# Altium schematic symbol library Seeed-OPL-Transistor.SCHLIB: 33 symbols
Pins are listed as number, name and electrical type; pins without a type are passive.

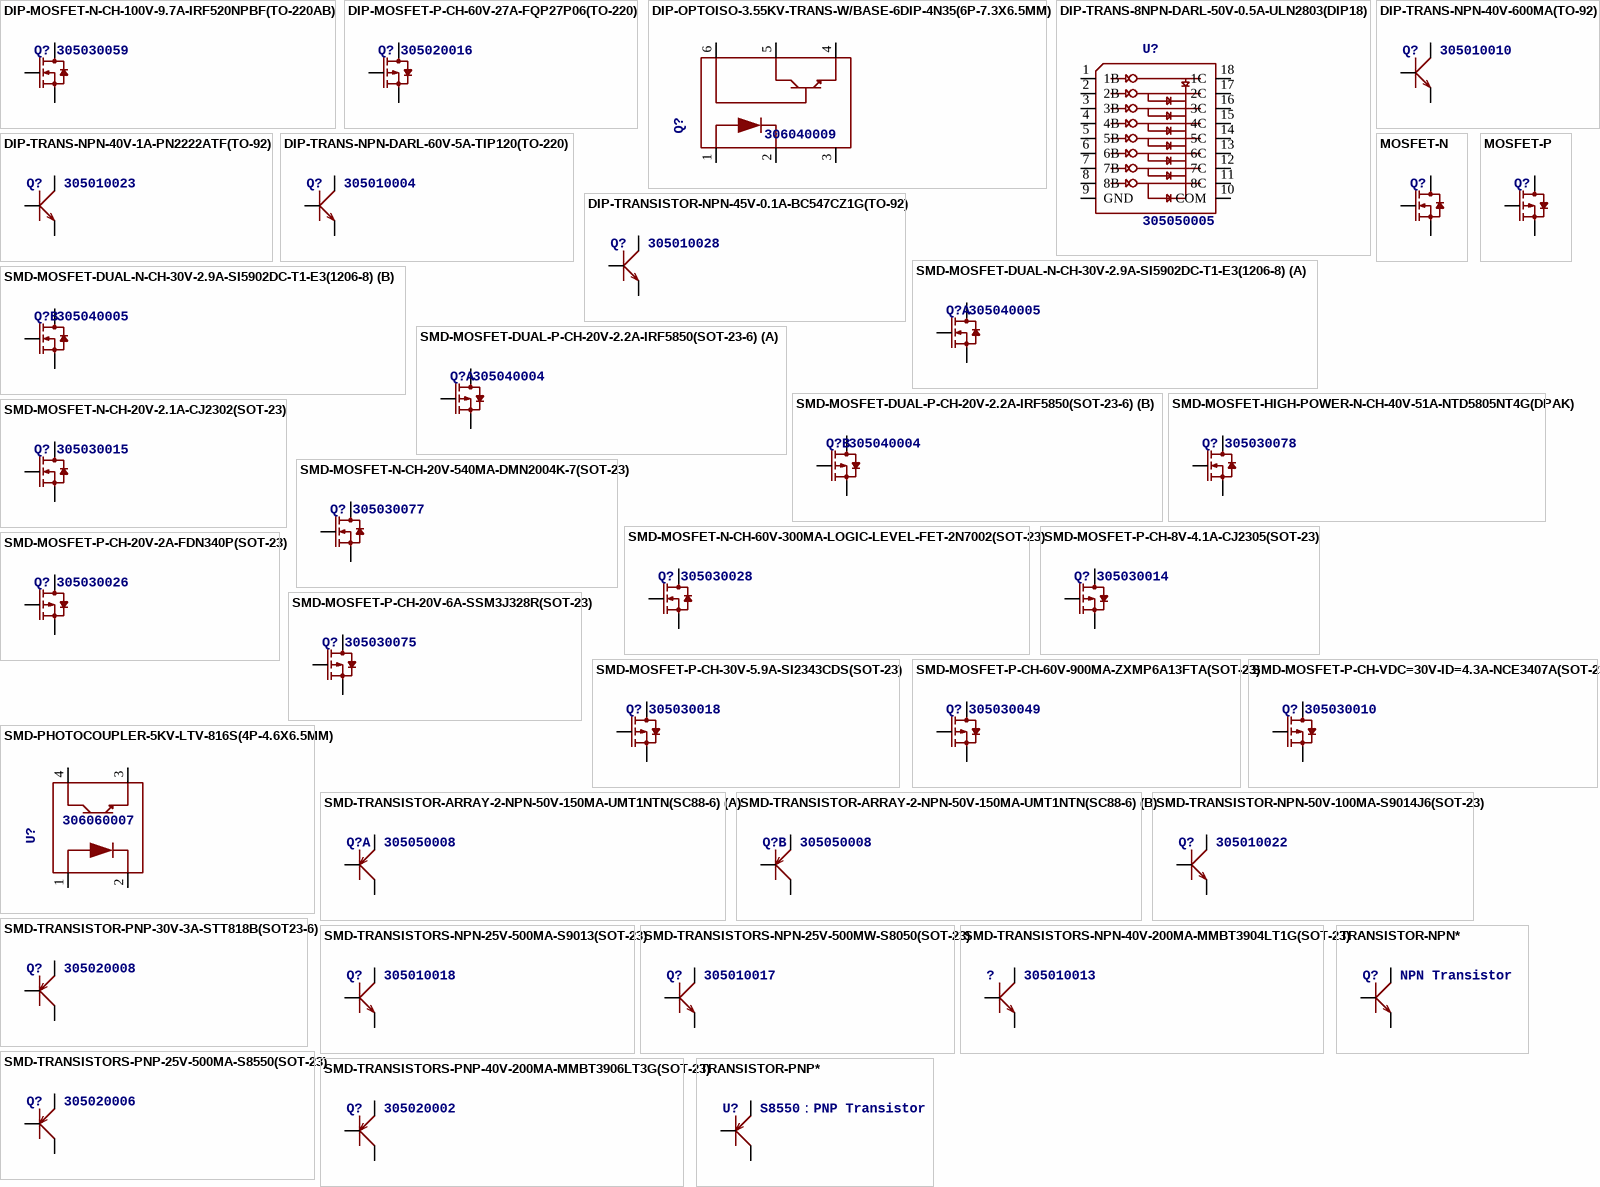
[diagram p0: symbols DIP-MOSFET-N-CH-100V-9.7A-IRF520NPBF(TO-220AB) to TRANSISTOR-PNP*]

## DIP-MOSFET-N-CH-100V-9.7A-IRF520NPBF(TO-220AB)
designator Q?, comment 305030059
MPN: IRF520NPBF
footprint TO-220
pins: 1 G, 2 HEAT S, 3 D

## DIP-MOSFET-P-CH-60V-27A-FQP27P06(TO-220)
designator Q?, comment 305020016
MPN: FQP27P06
footprint TO-220
pins: 1 G, 2 HEAT D, 3 S

## DIP-OPTOISO-3.55KV-TRANS-W/BASE-6DIP-4N35(6P-7.3X6.5MM)
designator Q?, comment 306040009
MPN: 4N35
footprint DIP6-2.54-7.3X6.5MM
pins: 1 ANODE, 2 CATHODE, 3 NC, 4 EMITER, 5 COLLECTOR, 6 BASE

## DIP-TRANS-8NPN-DARL-50V-0.5A-ULN2803(DIP18)
designator U?, comment 305050005
MPN: ULN2803APGCN
footprint DIP18-2.54-22.8X7.62MM
pins: 1 1B, 2 2B, 3 3B, 4 4B, 5 5B, 6 6B, 7 7B, 8 8B, 9 GND, 10 COM, 11 8C, 12 7C, 13 6C, 14 5C, 15 4C, 16 3C, 17 2C, 18 1C

## DIP-TRANS-NPN-40V-1A-PN2222ATF(TO-92)
designator Q?, comment 305010023
MPN: PN2222ATF
footprint TO-92
pins: 1 E, 2 B, 3 C

## DIP-TRANS-NPN-40V-600MA(TO-92)
designator Q?, comment 305010010
MPN: P2N2222A
footprint TO-92
pins: 1 E, 2 B, 3 C

## DIP-TRANS-NPN-DARL-60V-5A-TIP120(TO-220)
designator Q?, comment 305010004
MPN: TIP120
footprint TO-220
pins: 1 B, 2 C, 3 E

## DIP-TRANSISTOR-NPN-45V-0.1A-BC547CZ1G(TO-92)
designator Q?, comment 305010028
MPN: BC547CZ1G
footprint TO-92
pins: 1 C, 2 B, 3 E

## MOSFET-N
designator Q?
footprint SOT-23
pins: 1 G, 2 S, 3 D

## MOSFET-P
designator Q?
footprint SOT-23
pins: 1 G, 2 S, 3 D

## SMD-MOSFET-DUAL-N-CH-30V-2.9A-SI5902DC-T1-E3(1206-8)
designator Q?, comment 305040005
MPN: SI5902DC-T1-E3
footprint 1206-8
part A pins: 1 S, 2 G, 5 6 D
part B pins: 3 S, 4 G, 7 8 D

## SMD-MOSFET-DUAL-P-CH-20V-2.2A-IRF5850(SOT-23-6)
designator Q?, comment 305040004
MPN: IRF5850
footprint SOT-23-6
part A pins: 1 G, 5 S, 6 D
part B pins: 2 S, 3 G, 4 D

## SMD-MOSFET-HIGH-POWER-N-CH-40V-51A-NTD5805NT4G(DPAK)
designator Q?, comment 305030078
MPN: NTD5805NT4G
footprint DPAK
pins: 1 G, 2 S, 3 D

## SMD-MOSFET-N-CH-20V-2.1A-CJ2302(SOT-23)
designator Q?, comment 305030015
MPN: CJ2302
footprint SOT-23
pins: 1 G, 2 S, 3 D

## SMD-MOSFET-N-CH-20V-540MA-DMN2004K-7(SOT-23)
designator Q?, comment 305030077
MPN: DMN2004K-7
footprint SOT-23
pins: 1 G, 2 S, 3 D

## SMD-MOSFET-N-CH-60V-300MA-LOGIC-LEVEL-FET-2N7002(SOT-23)
designator Q?, comment 305030028
MPN: 2N7002,215
footprint SOT-23
pins: 1 G, 2 S, 3 D

## SMD-MOSFET-P-CH-8V-4.1A-CJ2305(SOT-23)
designator Q?, comment 305030014
MPN: CJ2305
footprint SOT-23
pins: 1 G, 2 S, 3 D

## SMD-MOSFET-P-CH-20V-2A-FDN340P(SOT-23)
designator Q?, comment 305030026
MPN: FDN340P
footprint SOT-23
pins: 1 G, 2 S, 3 D

## SMD-MOSFET-P-CH-20V-6A-SSM3J328R(SOT-23)
designator Q?, comment 305030075
MPN: SSM3J328R,LF
footprint SOT-23
pins: 1 G, 2 S, 3 D

## SMD-MOSFET-P-CH-30V-5.9A-SI2343CDS(SOT-23)
designator Q?, comment 305030018
MPN: Si2343CDS
footprint SOT-23
pins: 1 G, 2 S, 3 D

## SMD-MOSFET-P-CH-60V-900MA-ZXMP6A13FTA(SOT-23)
designator Q?, comment 305030049
MPN: ZXMP6A13FTA
footprint SOT-23
pins: 1 G, 2 S, 3 D

## SMD-MOSFET-P-CH-VDC=30V-ID=4.3A-NCE3407A(SOT-23)
designator Q?, comment 305030010
MPN: NCE3407A
footprint SOT-23
pins: 1 G, 2 S, 3 D

## SMD-PHOTOCOUPLER-5KV-LTV-816S(4P-4.6X6.5MM)
designator U?, comment 306060007
MPN: LTV-816S
footprint SMD4-2.54-4.6X6.5MM
pins: 1 ANODE, 2 CATHODE, 3 EMITER, 4 COLLECTOR

## SMD-TRANSISTOR-ARRAY-2-NPN-50V-150MA-UMT1NTN(SC88-6)
designator Q?, comment 305050008
MPN: UMT1NTN
footprint SC-88
part A pins: 1 E, 2 B, 6 C
part B pins: 3 E, 4 B, 5 C

## SMD-TRANSISTOR-NPN-50V-100MA-S9014J6(SOT-23)
designator Q?, comment 305010022
MPN: S9014J6
footprint SOT-23
pins: 1 B, 2 E, 3 C

## SMD-TRANSISTOR-PNP-30V-3A-STT818B(SOT23-6)
designator Q?, comment 305020008
MPN: STT818B
footprint SOT-23-6
pins: 1 2 5 6 C, 3 B, 4 E

## SMD-TRANSISTORS-NPN-25V-500MA-S9013(SOT-23)
designator Q?, comment 305010018
MPN: S9013
footprint SOT-23
pins: 1 B, 2 E, 3 C

## SMD-TRANSISTORS-NPN-25V-500MW-S8050(SOT-23)
designator Q?, comment 305010017
MPN: S8050
footprint SOT-23
pins: 1 B, 2 E, 3 C

## SMD-TRANSISTORS-NPN-40V-200MA-MMBT3904LT1G(SOT-23)
designator ?, comment 305010013
MPN: MMBT3904LT1G
footprint SOT-23
pins: 1 B, 2 E, 3 C

## SMD-TRANSISTORS-PNP-25V-500MA-S8550(SOT-23)
designator Q?, comment 305020006
MPN: S8550
footprint SOT-23
pins: 1 B, 2 E, 3 C

## SMD-TRANSISTORS-PNP-40V-200MA-MMBT3906LT3G(SOT-23)
designator Q?, comment 305020002
MPN: MMBT3906LT3G
footprint SOT-23
pins: 1 B, 2 E, 3 C

## TRANSISTOR-NPN*
designator Q?, comment NPN Transistor
footprint SOT-23
pins: 1 B, 2 E, 3 C

## TRANSISTOR-PNP*
designator U?, comment S8550：PNP Transistor
footprint SOT-23
pins: 1 B, 2 E, 3 C